# Altium schematic symbol library PMEG6030.SchLib: 1 symbol
Pins are listed as number, name and electrical type; pins without a type are passive.

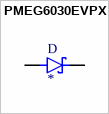
[diagram p0: symbol PMEG6030EVPX]

## PMEG6030EVPX
designator D
Diode Schottky 60V 3A Surface Mount SOD-128/CFP5; MF: Nexperia USA; MP: PMEG6030EVPX; Price: None; Value: *; Package: SOD-128 Nexperia; Availability: Unavailable; SnapEDA_Link: https://www.snapeda.com/parts/PMEG6030EVPX/Nexperia%20USA%20Inc./view-part/2755440/?ref=snap
footprint DIO_PMEG6030EVPX
pins: 1 K, 2 A